# Altium footprint library Pattern No3d 20090609.PcbLib: 323 footprints (part 5 of 22)
Each footprint in its own frame and in the unit in brackets; x right, y up, seen from the top. Pads: shape width x height; smd on the part's side, far side on the other; paste and mask are expansions set on the pad; w line width, h text height; cw(c..) or ccw(c..) is an arc to the next point about the centre after c.
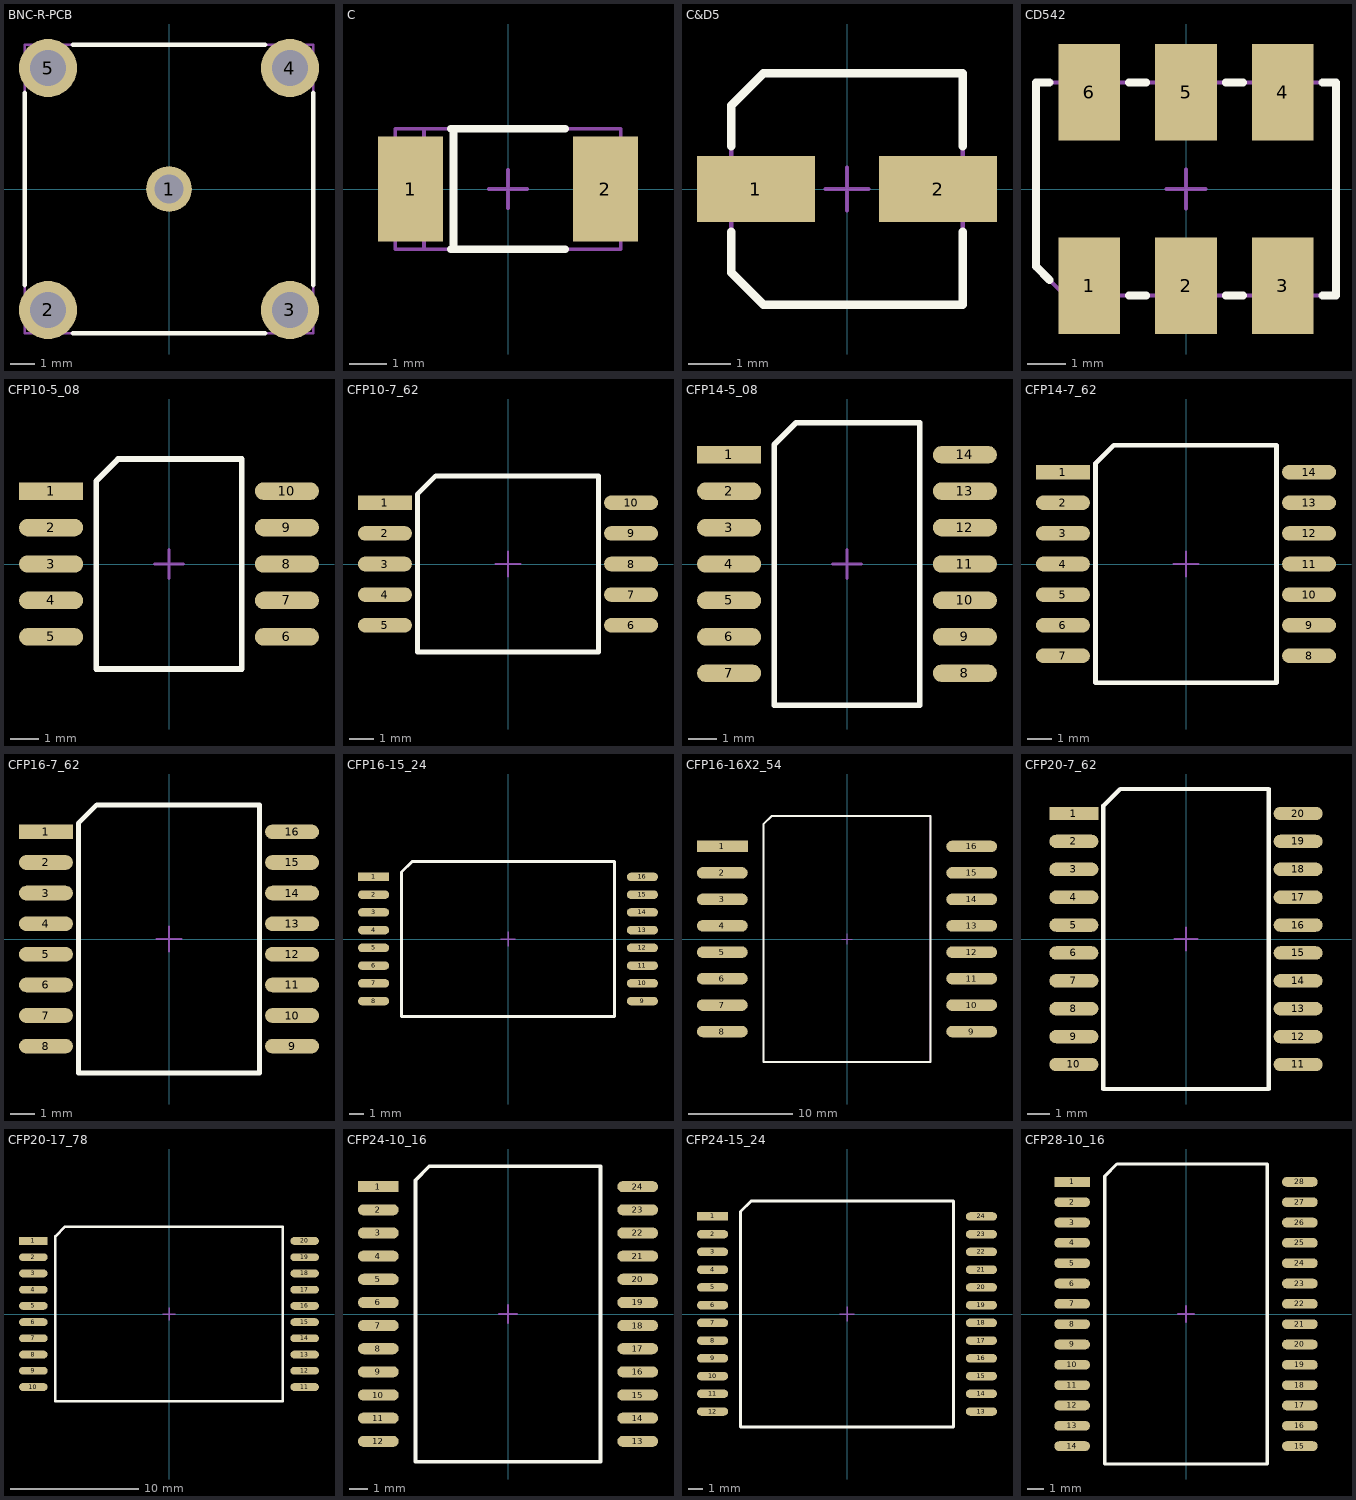
[diagram p4: the footprints below, top view; thin cyan lines are the x and y axes]

## BNC-R-PCB [mil] "http://docs-europe.electrocomponents.com/webdocs/0c50/0900766b80c50a78.pdf http://radiall.applixia.net/catalogue/resource?path=CATEGORY/pdf/D1141CE.pdf (R141 665 000)"
pads (5):
  round 75 hole 47 mask+4: 1(0,0)
  round 95 hole 59 mask+4: 2(-198,-198) 3(198,-198) 4(198,198) 5(-198,198)
Top Overlay:
  lines w8: -236,-157 -236,157 ; -157,-236 157,-236 ; -157,236 157,236 ; 236,-157 236,157
Mechanical 1:
  lines w4: -236,-236 236,-236 236,236 -236,236 -236,-236

## C [mil] "http://www.rohm.com/products/passive/ta_capacitor/pdf/catalog.pdf (Case C)"
pads (2):
  rect 68x110 smd mask+4: 1(-102,0) 2(102,0)
Top Overlay:
  lines w8: -60,-63 60,-63 ; -60,63 60,63 ; -57,-63 -57,63
Mechanical 1:
  lines w4: -88,-63 -88,63 ; -118,-63 -118,63 118,63 118,-63 -118,-63
Mechanical 15:
  lines w4: -20,0 20,0 ; 0,-20 0,20

## C&D5 [mil] "http://www.panasonic.com/industrial/components/pdf/pic_vs_series.pdf (Size C)"
pads (2):
  rect 110x62 smd mask+4: 1(-85,0) 2(85,0)
Top Overlay:
  lines w8: -108,-40 -108,-78 -78,-108 108,-108 108,-40 ; -108,40 -108,78 -78,108 108,108 108,40
Mechanical 1:
  lines w4: -108,-78 -108,78 -78,108 108,108 108,-108 -78,-108 -108,-78
Mechanical 15:
  lines w4: -20,0 20,0 ; 0,-20 0,20

## CD542 [mil] "http://www.cdiweb.com/datasheets/mini_circuits/ADT4-6T.pdf"
pads (6):
  rect 64x100 smd mask+4: 1(-100,-100) 2(0,-100) 3(100,-100) 4(100,100) 5(0,100) 6(-100,100)
Top Overlay:
  lines w8: -141,-94 -155,-80 -155,110 -141,110 ; -59,-110 -41,-110 ; -59,110 -41,110 ; 41,-110 59,-110 ; 41,110 59,110 ; 141,-110 155,-110 155,110 141,110
Mechanical 1:
  lines w4: -155,-80 -125,-110 155,-110 155,110 -155,110 -155,-80
Mechanical 15:
  lines w4: -20,0 20,0 ; 0,-20 0,20

## CFP10-5_08 [mil] "IPC-SM-782A SMD Land Patterns.pdf (MO-003)"
pads (10):
  rect 88x24 smd mask+4: 1(-162,100)
  oval 88x24 smd mask+4: 2(-162,50) 3(-162,0) 4(-162,-50) 5(-162,-100) 6(162,-100) 7(162,-50) 8(162,0) 9(162,50) 10(162,100)
Top Overlay:
  lines w8: -100,-144 100,-144 100,144 -70,144 -100,114 -100,-144
Mechanical 1:
  lines w4: -100,-144 100,-144 100,144 -70,144 -100,114 -100,-144
Mechanical 15:
  lines w4: -20,0 20,0 ; 0,-20 0,20

## CFP10-7_62 [mil] "IPC-SM-782A SMD Land Patterns.pdf (MO-004)"
pads (10):
  rect 88x24 smd mask+4: 1(-201,100)
  oval 88x24 smd mask+4: 2(-201,50) 3(-201,0) 4(-201,-50) 5(-201,-100) 6(201,-100) 7(201,-50) 8(201,0) 9(201,50) 10(201,100)
Top Overlay:
  lines w8: -148,-144 -148,114 -118,144 148,144 148,-144 -148,-144
Mechanical 1:
  lines w4: -150,-144 -150,114 -120,144 150,144 150,-144 -150,-144
Mechanical 15:
  lines w4: -20,0 20,0 ; 0,-20 0,20

## CFP14-5_08 [mil] "IPC-SM-782A SMD Land Patterns.pdf (MO-003)"
pads (14):
  rect 88x24 smd mask+4: 1(-162,150)
  oval 88x24 smd mask+4: 2(-162,100) 3(-162,50) 4(-162,0) 5(-162,-50) 6(-162,-100) 7(-162,-150) 8(162,-150) 9(162,-100) 10(162,-50) 11(162,0) 12(162,50) 13(162,100) 14(162,150)
Top Overlay:
  lines w8: -100,-194 -100,164 -70,194 100,194 100,-194 -100,-194
Mechanical 1:
  lines w4: -100,-194 -100,164 -70,194 100,194 100,-194 -100,-194
Mechanical 15:
  lines w4: -20,0 20,0 ; 0,-20 0,20

## CFP14-7_62 [mil] "IPC-SM-782A SMD Land Patterns.pdf (MO-004)"
pads (14):
  rect 88x24 smd mask+4: 1(-201,150)
  oval 88x24 smd mask+4: 2(-201,100) 3(-201,50) 4(-201,0) 5(-201,-50) 6(-201,-100) 7(-201,-150) 8(201,-150) 9(201,-100) 10(201,-50) 11(201,0) 12(201,50) 13(201,100) 14(201,150)
Top Overlay:
  lines w8: -148,-194 -148,164 -118,194 148,194 148,-194 -148,-194
Mechanical 1:
  lines w4: -150,-194 -150,164 -120,194 150,194 150,-194 -150,-194
Mechanical 15:
  lines w4: -20,0 20,0 ; 0,-20 0,20

## CFP16-7_62 [mil] "IPC-SM-782A SMD Land Patterns.pdf (MO-004)"
pads (16):
  rect 88x24 smd mask+4: 1(-201,175)
  oval 88x24 smd mask+4: 2(-201,125) 3(-201,75) 4(-201,25) 5(-201,-25) 6(-201,-75) 7(-201,-125) 8(-201,-175) 9(201,-175) 10(201,-125) 11(201,-75) 12(201,-25) 13(201,25) 14(201,75) 15(201,125) 16(201,175)
Top Overlay:
  lines w8: -148,-219 -148,189 -118,219 148,219 148,-219 -148,-219
Mechanical 1:
  lines w4: -150,-219 -150,189 -120,219 150,219 150,-219 -150,-219
Mechanical 15:
  lines w4: -20,0 20,0 ; 0,-20 0,20

## CFP16-15_24 [mil] "IPC-SM-782A SMD Land Patterns.pdf (MO-021)"
pads (16):
  rect 88x24 smd mask+4: 1(-379,175)
  oval 88x24 smd mask+4: 2(-379,125) 3(-379,75) 4(-379,25) 5(-379,-25) 6(-379,-75) 7(-379,-125) 8(-379,-175) 9(379,-175) 10(379,-125) 11(379,-75) 12(379,-25) 13(379,25) 14(379,75) 15(379,125) 16(379,175)
Top Overlay:
  lines w8: -300,-219 -300,189 -270,219 300,219 300,-219 -300,-219
Mechanical 1:
  lines w4: -300,-219 -300,189 -270,219 300,219 300,-219 -300,-219
Mechanical 15:
  lines w4: -20,0 20,0 ; 0,-20 0,20

## CFP16-16X2_54 [mil] "http://ww2.pulseeng.com/products/datasheets/N_QPL_Cat2_links.pdf (DGL(X)1553-(X))"
pads (16):
  rect 192x43 smd mask+4: 1(-471,350)
  oval 192x43 smd mask+4: 2(-471,250) 3(-471,150) 4(-471,50) 5(-471,-50) 6(-471,-150) 7(-471,-250) 8(-471,-350) 9(471,-350) 10(471,-250) 11(471,-150) 12(471,-50) 13(471,50) 14(471,150) 15(471,250) 16(471,350)
Top Overlay:
  lines w8: -315,-465 -315,435 -285,465 315,465 315,-465 -315,-465
Mechanical 1:
  lines w4: -315,-465 -315,435 -285,465 315,465 315,-465 -315,-465
Mechanical 15:
  lines w4: -20,0 20,0 ; 0,-20 0,20

## CFP20-7_62 [mil] "IPC-SM-782A SMD Land Patterns.pdf (MO-018)"
pads (20):
  rect 88x24 smd mask+4: 1(-201,225)
  oval 88x24 smd mask+4: 2(-201,175) 3(-201,125) 4(-201,75) 5(-201,25) 6(-201,-25) 7(-201,-75) 8(-201,-125) 9(-201,-175) 10(-201,-225) 11(201,-225) 12(201,-175) 13(201,-125) 14(201,-75) 15(201,-25) 16(201,25) 17(201,75) 18(201,125) 19(201,175) 20(201,225)
Top Overlay:
  lines w8: -148,-269 -148,239 -118,269 148,269 148,-269 -148,-269
Mechanical 1:
  lines w4: -150,-269 -150,239 -120,269 150,269 150,-269 -150,-269
Mechanical 15:
  lines w4: -20,0 20,0 ; 0,-20 0,20

## CFP20-17_78 [mil] "IPC-SM-782A SMD Land Patterns.pdf (MO-022)"
pads (20):
  rect 88x24 smd mask+4: 1(-418,225)
  oval 88x24 smd mask+4: 2(-418,175) 3(-418,125) 4(-418,75) 5(-418,25) 6(-418,-25) 7(-418,-75) 8(-418,-125) 9(-418,-175) 10(-418,-225) 11(418,-225) 12(418,-175) 13(418,-125) 14(418,-75) 15(418,-25) 16(418,25) 17(418,75) 18(418,125) 19(418,175) 20(418,225)
Top Overlay:
  lines w8: -350,-269 350,-269 350,269 -320,269 -350,239 -350,-269
Mechanical 1:
  lines w4: -350,-269 350,-269 350,269 -320,269 -350,239 -350,-269
Mechanical 15:
  lines w4: -20,0 20,0 ; 0,-20 0,20

## CFP24-10_16 [mil] "IPC-SM-782A SMD Land Patterns.pdf (MO-019)"
pads (24):
  rect 88x24 smd mask+4: 1(-280,275)
  oval 88x24 smd mask+4: 2(-280,225) 3(-280,175) 4(-280,125) 5(-280,75) 6(-280,25) 7(-280,-25) 8(-280,-75) 9(-280,-125) 10(-280,-175) 11(-280,-225) 12(-280,-275) 13(280,-275) 14(280,-225) 15(280,-175) 16(280,-125) 17(280,-75) 18(280,-25) 19(280,25) 20(280,75) 21(280,125) 22(280,175) 23(280,225) 24(280,275)
Top Overlay:
  lines w8: -200,-319 200,-319 200,319 -170,319 -200,289 -200,-319
Mechanical 1:
  lines w4: -200,-319 200,-319 200,319 -170,319 -200,289 -200,-319
Mechanical 15:
  lines w4: -20,0 20,0 ; 0,-20 0,20

## CFP24-15_24 [mil] "IPC-SM-782A SMD Land Patterns.pdf (MO-021)"
pads (24):
  rect 88x24 smd mask+4: 1(-379,275)
  oval 88x24 smd mask+4: 2(-379,225) 3(-379,175) 4(-379,125) 5(-379,75) 6(-379,25) 7(-379,-25) 8(-379,-75) 9(-379,-125) 10(-379,-175) 11(-379,-225) 12(-379,-275) 13(379,-275) 14(379,-225) 15(379,-175) 16(379,-125) 17(379,-75) 18(379,-25) 19(379,25) 20(379,75) 21(379,125) 22(379,175) 23(379,225) 24(379,275)
Top Overlay:
  lines w8: -300,-319 300,-319 300,319 -270,319 -300,289 -300,-319
Mechanical 1:
  lines w4: -300,-319 300,-319 300,319 -270,319 -300,289 -300,-319
Mechanical 15:
  lines w4: -20,0 20,0 ; 0,-20 0,20

## CFP28-10_16 [mil] "IPC-SM-782A SMD Land Patterns.pdf (MO-019)"
pads (28):
  rect 88x24 smd mask+4: 1(-280,325)
  oval 88x24 smd mask+4: 2(-280,275) 3(-280,225) 4(-280,175) 5(-280,125) 6(-280,75) 7(-280,25) 8(-280,-25) 9(-280,-75) 10(-280,-125) 11(-280,-175) 12(-280,-225) 13(-280,-275) 14(-280,-325) 15(280,-325) 16(280,-275) 17(280,-225) 18(280,-175) 19(280,-125) 20(280,-75) 21(280,-25) 22(280,25) 23(280,75) 24(280,125) 25(280,175) 26(280,225) 27(280,275) 28(280,325)
Top Overlay:
  lines w8: -200,-369 200,-369 200,369 -170,369 -200,339 -200,-369
Mechanical 1:
  lines w4: -200,-369 200,-369 200,369 -170,369 -200,339 -200,-369
Mechanical 15:
  lines w4: -20,0 20,0 ; 0,-20 0,20